# Altium footprint library SOT-23-THIN-8.PcbLib: 1 footprints
Each footprint in its own frame and in the unit in brackets; x right, y up, seen from the top. Pads: shape width x height; smd on the part's side, far side on the other; paste and mask are expansions set on the pad; w line width, h text height; cw(c..) or ccw(c..) is an arc to the next point about the centre after c.
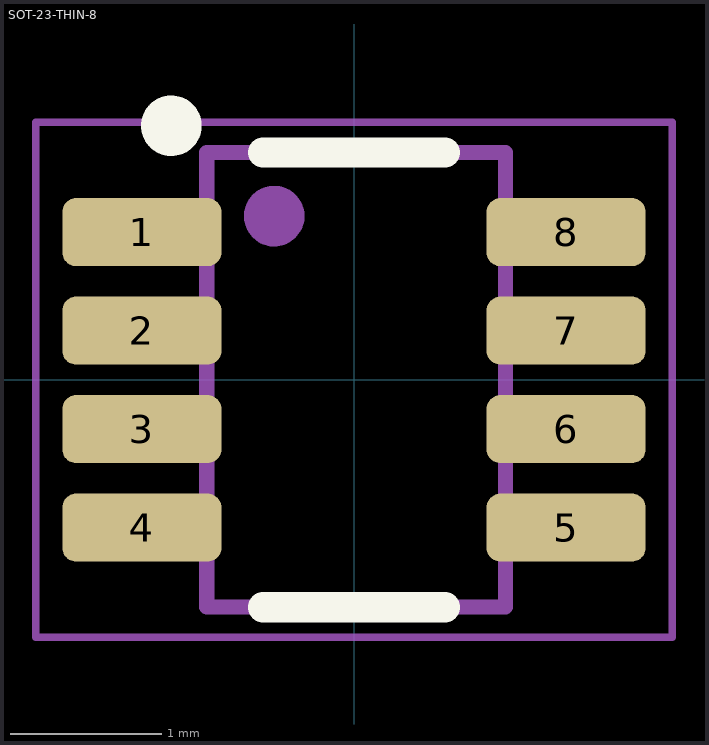
[diagram p0: the footprint, top view; thin cyan lines are the x and y axes]

## SOT-23-THIN-8 [mm] "SOT-23 Thin 8 pins"
height 1.1
pads (8):
  rrect40% 1.05x0.45 smd mask+0.07: 1(-1.4,0.975) 2(-1.4,0.325) 3(-1.4,-0.325) 4(-1.4,-0.975) 5(1.4,-0.975) 6(1.4,-0.325) 7(1.4,0.325) 8(1.4,0.975)
Top Overlay:
  circle w0.2: c-1.206,1.677 r0.1
  lines w0.2: -0.6,-1.5 0.6,-1.5 ; -0.6,1.5 0.6,1.5
Top Assembly:
  circle w0.2: c-0.527,1.081 r0.1
  lines w0.1: -0.972,-1.5 1,-1.5 1,1.5 -0.972,1.5 -0.972,-1.5
Top Courtyard:
  lines w0.05: -2.1,-1.7 -2.1,1.7 2.1,1.7 2.1,-1.7 -2.1,-1.7
Top Designator:
  text ".Designator" at -1.999,-0.133 h0.4
3D body "SOT23-8.stp": height 1.2, standoff 0.02, extent -1.435,-1.5 1.4,1.5